# EAGLE library part B?56-13*WA (library display-kingbright)
14.22mm (0.56INCH) THREE DIGIT NUMERIC DISPLAY Source: http://www.kingbright.com .. BA56-11EWA(Ver1189474895.pdf
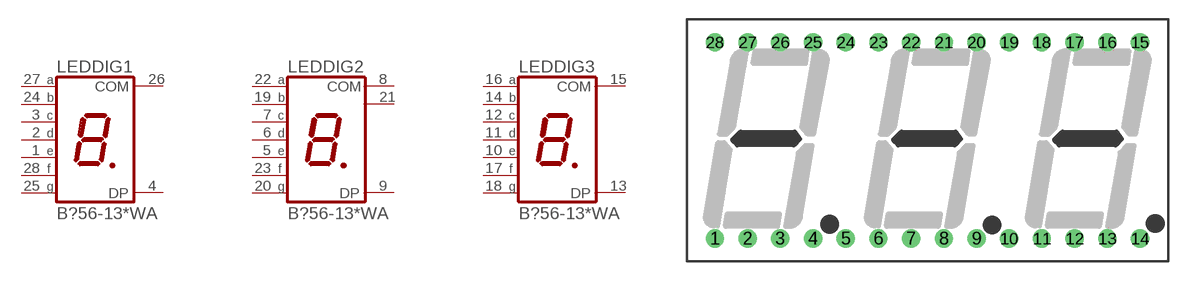
[diagram p2: symbol with the pads of BA/BC56; footprint BA/BC56]

Designator prefix LED; gates DIG1=7SEG-LED-COM1 DIG2=7SEG-LED-COM2 DIG3=7SEG-LED-COM1

## BA56-13EWA (OC_FARNELL: unknown; OC_NEWARK: unknown), BA56-13GWA (OC_FARNELL: unknown; OC_NEWARK: unknown), BA56-13SRWA (OC_FARNELL: unknown; OC_NEWARK: unknown), BA56-13YWA (OC_FARNELL: unknown; OC_NEWARK: unknown)  [BA/BC56]
1  DIG1:E  pas
2  DIG1:D  pas
3  DIG1:C  pas
4  DIG1:DP  pas
5  DIG2:E  pas
6  DIG2:D  pas
7  DIG2:C  pas
8  DIG2:COM  pas
9  DIG2:DP  pas
10  DIG3:E  pas
11  DIG3:D  pas
12  DIG3:C  pas
13  DIG3:DP  pas
14  DIG3:B  pas
15  DIG3:COM  pas
16  DIG3:A  pas
17  DIG3:F  pas
18  DIG3:G  pas
19  DIG2:B  pas
20  DIG2:G  pas
21  DIG2:COM  pas
22  DIG2:A  pas
23  DIG2:F  pas
24  DIG1:B  pas
25  DIG1:G  pas
26  DIG1:COM  pas
27  DIG1:A  pas
28  DIG1:F  pas

## BC56-13EWA (OC_FARNELL: unknown; OC_NEWARK: unknown), BC56-13GWA (OC_FARNELL: unknown; OC_NEWARK: unknown), BC56-13SRWA (OC_FARNELL: unknown; OC_NEWARK: unknown), BC56-13YWA (OC_FARNELL: unknown; OC_NEWARK: unknown)  [BA/BC56]
Pads as for BA/BC56

## Footprint BA/BC56 (pad centres in mm)
14.22mm (0.56INCH) THREE DIGIT NUMERIC DISPLAY Source: http://www.kingbright.com .. BA56-11EWA(Ver1189474895.pdf
drill 0.8 pad 1.422: 1 -16.51,-7.62; 2 -13.97,-7.62; 3 -11.43,-7.62; 4 -8.89,-7.62; 5 -6.35,-7.62; 6 -3.81,-7.62; 7 -1.27,-7.62; 8 1.27,-7.62; 9 3.81,-7.62; 10 6.35,-7.62; 11 8.89,-7.62; 12 11.43,-7.62; 13 13.97,-7.62; 14 16.51,-7.62; 15 16.51,7.62; 16 13.97,7.62; 17 11.43,7.62; 18 8.89,7.62; 19 6.35,7.62; 20 3.81,7.62; 21 1.27,7.62; 22 -1.27,7.62; 23 -3.81,7.62; 24 -6.35,7.62; 25 -8.89,7.62; 26 -11.43,7.62; 27 -13.97,7.62; 28 -16.51,7.62